# Altium schematic symbol library LMR50410YQDBVRQ1.SchLib: 1 symbol
Pins are listed as number, name and electrical type; pins without a type are passive.

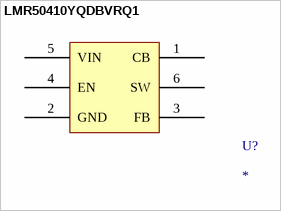
[diagram p0: symbol LMR50410YQDBVRQ1]

## LMR50410YQDBVRQ1
designator U?
pins: 1 CB (power), 2 GND, 3 FB, 4 EN, 5 VIN (power), 6 SW (power)